# Altium footprint library Footprints.PcbLib: 9 footprints
Each footprint in its own frame and in the unit in brackets; x right, y up, seen from the top. Pads: shape width x height; smd on the part's side, far side on the other; paste and mask are expansions set on the pad; w line width, h text height; cw(c..) or ccw(c..) is an arc to the next point about the centre after c.
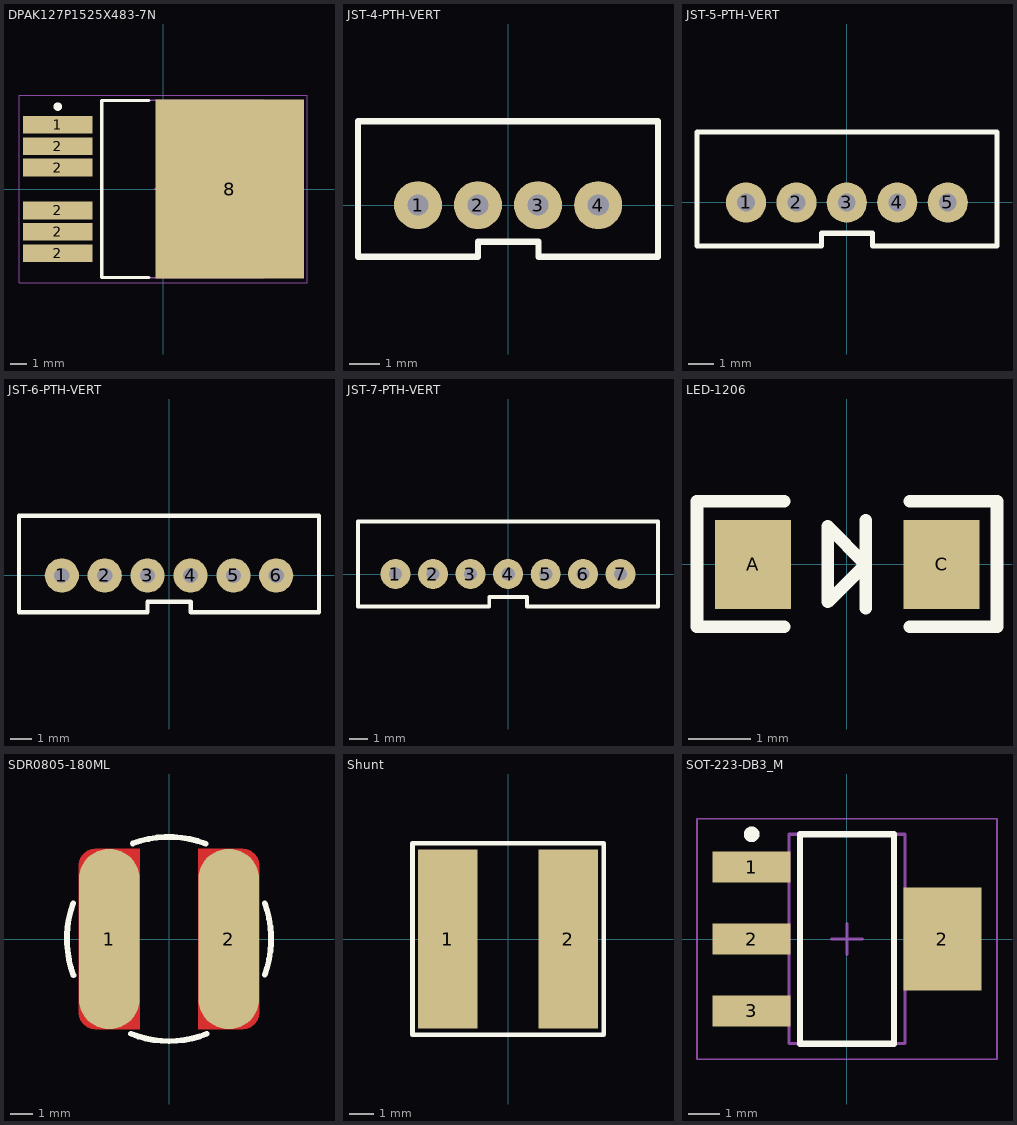
[diagram p0: the footprints below, top view; thin cyan lines are the x and y axes]

## DPAK127P1525X483-7N [mm] "D2-PAK, 7-Pads, Body 7.93x8.63mm (max), IPC Medium Density"
height 4.83
pads (7):
  rect 4.15x1.05 smd mask+0.051: 1(-6.25,3.81) 2(-6.25,-3.81) 2(-6.25,-2.54) 2(-6.25,-1.27) 2(-6.25,1.27) 2(-6.25,2.54)
  rect 8.8x10.6 smd: 8(3.95,0)
Top Overlay:
  circle w0.25: c-6.25,4.885 r0.125
  lines w0.2: -0.85,-5.25 -3.65,-5.25 -3.65,5.25 -0.85,5.25
Mechanical 13:
  lines w0.1: -3.65,-5.275 6,-5.275 6,5.275 -3.65,5.275 -3.65,-5.275
Mechanical 15:
  lines w0.05: -8.55,-5.55 8.55,-5.55 8.55,5.55 -8.55,5.55 -8.55,-5.55
  lines w0.1: -0.5,0 0.5,0 ; 0,-0.5 0,0.5
3D body: height 4.83, standoff 0.38, extent -3.65,-5.275 6,5.275

## JST-4-PTH-VERT [mil]
pads (4):
  round 63 hole 28: 1(-118.11,0) 2(-39.37,0) 3(39.37,0) 4(118.37,0)
Top Overlay:
  lines w8: -196.85,-67.84 -196.85,110 196.85,110 196.85,-67.84 40,-67.84 40,-48.16 -39.37,-48.16 -39.37,-67.84 -196.85,-67.84

## JST-5-PTH-VERT [mil]
pads (5):
  round 63 hole 28: 1(-157.48,0) 2(-78.74,0) 3(0,0) 4(79,0) 5(158,0)
Top Overlay:
  lines w8: -234.25,-67.84 -234.25,110 235,110 235,-67.84 40,-67.84 40,-48.16 -39.37,-48.16 -39.37,-67.84 -234.25,-67.84

## JST-6-PTH-VERT [mil]
pads (6):
  round 63 hole 28: 1(-196.85,0) 2(-118.11,0) 3(-39.37,0) 4(39.63,0) 5(118.63,0) 6(196.85,0)
Top Overlay:
  lines w8: -275.59,-67.84 -275.59,110 275.59,110 275.59,-67.84 40,-67.84 40,-48.16 -39.37,-48.16 -39.37,-67.84 -275.59,-67.84

## JST-7-PTH-VERT [mil]
pads (7):
  round 63 hole 28: 1(-236.22,0) 2(-157.48,0) 3(-78.74,0) 4(0.26,0) 5(79.26,0) 6(157.48,0) 7(236.22,0)
Top Overlay:
  lines w8: -314.96,-67.84 -39.37,-67.84 -39.37,-48.16 40,-48.16 40,-67.84 314.96,-67.84 314.96,110 -314.96,110 -314.96,-67.84

## LED-1206 [mil]
pads (2):
  rect 48x56 smd: A(-59.06,0) C(60,0)
Top Overlay:
  lines w8: -39.37,-39.37 -94.49,-39.37 -94.49,40 -39.37,40 ; 12,-27.56 12,0 ; 12,28 12,0 ; 40,-39.37 95,-39.37 95,40 40,40 ; 12,0 -11.81,24 -11.81,-23.62 12,0

## SDR0805-180ML [mm]
pads (2):
  rrect100% 2.7x8 smd: 1(-2.65,0) 2(2.65,0)
Top Layer:
  region: 3.25,4 1.3,4 1.3,-4 3.25,-4 3.299,-4 3.446,-3.981 3.628,-3.905 3.785,-3.785 3.905,-3.628 3.981,-3.446 4,-3.299 4,-3.25 4,3.25 4,3.299 3.981,3.446 3.905,3.628 3.785,3.785 3.628,3.905 3.446,3.981 3.299,4
  region: -3.25,4 -1.3,4 -1.3,-4 -3.25,-4 -3.299,-4 -3.446,-3.981 -3.628,-3.905 -3.785,-3.785 -3.905,-3.628 -3.981,-3.446 -4,-3.299 -4,-3.25 -4,3.25 -4,3.299 -3.981,3.446 -3.905,3.628 -3.785,3.785 -3.628,3.905 -3.446,3.981 -3.299,4
Top Overlay:
  lines w0.254: -4.24,1.59 ccw(c0,0) -4.235,-1.603 ; -1.682,-4.204 ccw(c0,0) 1.676,-4.206 ; -1.603,4.235 cw(c0,0) 1.625,4.226 ; 4.239,-1.59 ccw(c0,0) 4.239,1.59

## Shunt [mm]
pads (2):
  rect 2.44x7.38 smd: 1(-2.48,0) 2(2.48,0)
Top Overlay:
  lines w0.2: -3.937,-3.937 3.937,-3.937 3.937,3.937 -3.937,3.937 ; -3.931,-3.937 -3.931,0 -3.931,3.937

## SOT-223-DB3_M [mm] "SOT223, 4-Leads, Body 6.5x3.5mm, Pitch 2.3mm, Lead Span 7mm, IPC Low Density"
height 1.8
pads (4):
  rect 2.5x1 smd: 1(-3.05,2.3) 2(-3.05,0) 3(-3.05,-2.3)
  rect 2.5x3.3 smd: 2(3.05,0)
Top Overlay:
  circle w0.25: c-3.05,3.35 r0.125
  lines w0.2: -1.5,-3.35 -1.5,3.35 1.5,3.35 1.5,-3.35 -1.5,-3.35
Mechanical 13:
  lines w0.1: -1.85,-3.35 -1.85,3.35 1.85,3.35 1.85,-3.35 -1.85,-3.35
Mechanical 15:
  lines w0.05: -4.8,-3.85 -4.8,3.85 4.8,3.85 4.8,-3.85 -4.8,-3.85
  lines w0.1: -0.5,0 0.5,0 ; 0,-0.5 0,0.5
3D body: height 1.8, standoff 0.02, extent -1.85,-3.35 1.85,3.35